# Altium footprint library RPSLib_LEDs.PcbLib: 12 footprints
Each footprint in its own frame and in the unit in brackets; x right, y up, seen from the top. Pads: shape width x height; smd on the part's side, far side on the other; paste and mask are expansions set on the pad; w line width, h text height; cw(c..) or ccw(c..) is an arc to the next point about the centre after c.
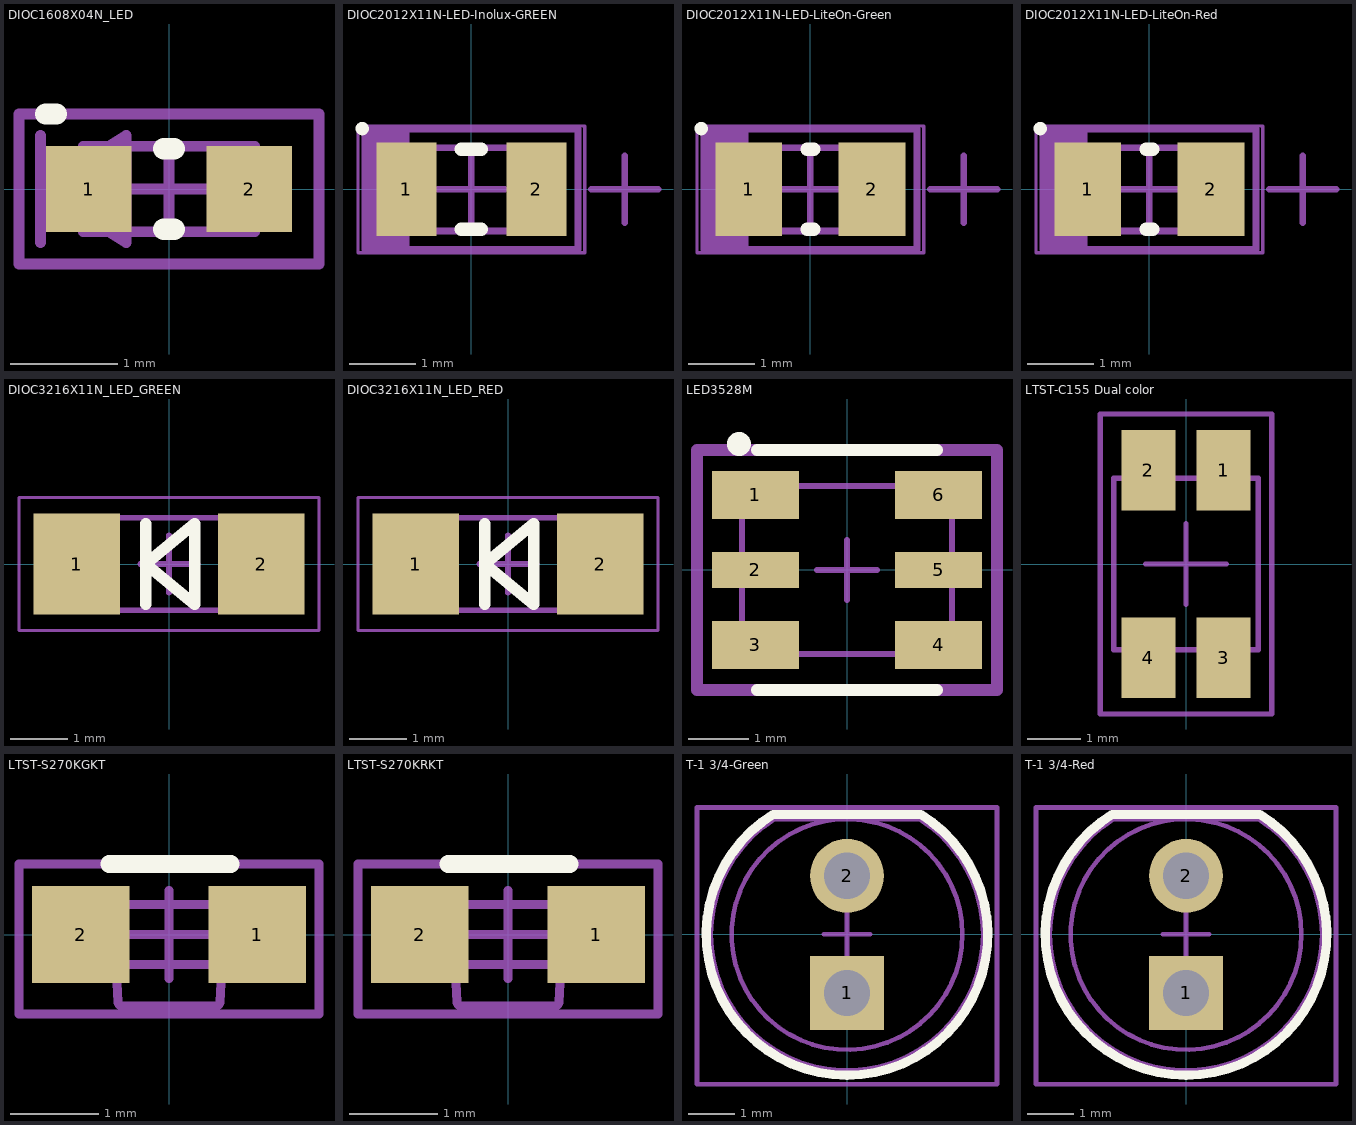
[diagram p0: the footprints below, top view; thin cyan lines are the x and y axes]

## DIOC1608X04N_LED [mm] "Chip LED, 2-Leads, Body 1,60x0,80mm, IPC Medium Density"
height 0.35
pads (2):
  rect 0.8x0.8 smd: 1(-0.75,0) 2(0.75,0)
Top Overlay:
  lines w0.2: -1.15,0.7 -1.05,0.7 ; -0.05,-0.375 0.05,-0.375 ; -0.05,0.375 0.05,0.375
Mechanical 1:
  lines w0.1: -1.2,-0.5 -1.2,0.5 ; -1.4,-0.7 -1.4,0.7 1.4,0.7 1.4,-0.7 -1.4,-0.7 ; -1.2,0 -0.4,0.5 -0.4,-0.5 -1.2,0
  text ".Designator" at -1.126,-0.113 h0.5
Mechanical 13:
  lines w0.1: -0.8,-0.4 0.8,-0.4 0.8,0.4 -0.8,0.4 -0.8,-0.4
Mechanical 15:
  lines w0.05: -1.4,-0.7 1.4,-0.7 1.4,0.7 -1.4,0.7 -1.4,-0.7
  lines w0.1: -0.4,0 0.4,0 ; 0,-0.4 0,0.4
3D body "LTST-C193KGKT-5A.stp": height 0.35, standoff 0, extent -0.81,-0.4 0.81,0.4

## DIOC2012X11N-LED-Inolux-GREEN [mm] "Chip Diode, 2-Leads, Body 2,00x1,25mm, IPC Medium Density"
height 1.1
pads (2):
  rect 0.9x1.4 smd: 1(-0.975,0) 2(0.975,0)
Top Overlay:
  circle w0.1: c-1.637,0.912 r0.05
  lines w0.2: -0.15,-0.6 0.15,-0.6 ; -0.15,0.6 0.15,0.6
Mechanical 1:
  rectangle: -1.6,-0.9 -0.925,0.897
  lines w0.1: 1.8,0 2.8,0 ; 2.3,-0.5 2.3,0.5 ; -1.6,-0.9 -1.6,0.9 1.6,0.9 1.6,-0.9 -1.6,-0.9
  text ".Designator" at -1.126,-0.113 h0.5
Mechanical 13:
  lines w0.1: -1,-0.625 1,-0.625 1,0.625 -1,0.625 -1,-0.625
Mechanical 15:
  lines w0.05: -1.7,-0.95 1.7,-0.95 1.7,0.95 -1.7,0.95 -1.7,-0.95
  lines w0.1: -0.5,0 0.5,0 ; 0,-0.5 0,0.5
3D body "everlight-17-21-0805LED-GREEN.step": height 1.1, standoff -0.01, extent -1,-0.625 1,0.625

## DIOC2012X11N-LED-LiteOn-Green [mm] "Chip Diode, 2-Leads, Body 2,00x1,25mm, IPC Medium Density"
height 1.1
pads (2):
  rect 1x1.4 smd: 1(-0.925,0) 2(0.925,0)
Top Overlay:
  circle w0.1: c-1.637,0.912 r0.05
  lines w0.2: -0.05,-0.6 0.05,-0.6 ; -0.05,0.6 0.05,0.6
Mechanical 1:
  rectangle: -1.6,-0.9 -0.925,0.897
  lines w0.1: 1.8,0 2.8,0 ; 2.3,-0.5 2.3,0.5 ; -1.6,-0.9 1.6,-0.9 1.6,0.9 -1.6,0.9 -1.6,-0.9
  text ".Designator" at -1.126,-0.113 h0.5
Mechanical 13:
  lines w0.1: -1,-0.625 1,-0.625 1,0.625 -1,0.625 -1,-0.625
Mechanical 15:
  lines w0.05: -1.7,-0.95 1.7,-0.95 1.7,0.95 -1.7,0.95 -1.7,-0.95
  lines w0.1: -0.5,0 0.5,0 ; 0,-0.5 0,0.5
3D body "everlight-17-21-0805LED-GREEN.step": height 1.1, standoff -0.01, extent -1,-0.625 1,0.625

## DIOC2012X11N-LED-LiteOn-Red [mm] "Chip Diode, 2-Leads, Body 2,00x1,25mm, IPC Medium Density"
height 1.1
pads (2):
  rect 1x1.4 smd: 1(-0.925,0) 2(0.925,0)
Top Overlay:
  circle w0.1: c-1.637,0.912 r0.05
  lines w0.2: -0.05,-0.6 0.05,-0.6 ; -0.05,0.6 0.05,0.6
Mechanical 1:
  rectangle: -1.6,-0.9 -0.925,0.897
  lines w0.1: 1.8,0 2.8,0 ; 2.3,-0.5 2.3,0.5 ; -1.6,-0.9 -1.6,0.9 1.6,0.9 1.6,-0.9 -1.6,-0.9
  text ".Designator" at -1.126,-0.113 h0.5
Mechanical 13:
  lines w0.1: -1,-0.625 1,-0.625 1,0.625 -1,0.625 -1,-0.625
Mechanical 15:
  lines w0.05: -1.7,-0.95 1.7,-0.95 1.7,0.95 -1.7,0.95 -1.7,-0.95
  lines w0.1: -0.5,0 0.5,0 ; 0,-0.5 0,0.5
3D body "everlight-17-21-0805LED-red.step": height 1.1, standoff -0.01, extent -1,-0.625 1,0.625

## DIOC3216X11N_LED_GREEN [mm] "Chip Diode, 2-Leads, Body 3,20x1,60mm, IPC Medium Density"
height 1.1
pads (2):
  rect 1.5x1.75 smd: 1(-1.6,0) 2(1.6,0)
Top Overlay:
  lines w0.2: -0.4,-0.7 -0.4,0.7 ; -0.4,0 0.45,-0.7 0.45,0.7 -0.4,0
Mechanical 13:
  lines w0.1: -1.6,-0.8 1.6,-0.8 1.6,0.8 -1.6,0.8 -1.6,-0.8
Mechanical 15:
  lines w0.05: -2.6,-1.15 -2.6,1.15 2.6,1.15 2.6,-1.15 -2.6,-1.15
  lines w0.1: -0.5,0 0.5,0 ; 0,-0.5 0,0.5
3D body "User Library-LED 1206 GREEN.step": height 1.1, standoff 0, extent -1.6,-0.8 1.6,0.8

## DIOC3216X11N_LED_RED [mm] "Chip Diode, 2-Leads, Body 3,20x1,60mm, IPC Medium Density"
height 1.1
pads (2):
  rect 1.5x1.75 smd: 1(-1.6,0) 2(1.6,0)
Top Overlay:
  lines w0.2: -0.4,-0.7 -0.4,0.7 ; -0.4,0 0.45,0.7 0.45,-0.7 -0.4,0
Mechanical 13:
  lines w0.1: -1.6,-0.8 -1.6,0.8 1.6,0.8 1.6,-0.8 -1.6,-0.8
Mechanical 15:
  lines w0.05: -2.6,-1.15 2.6,-1.15 2.6,1.15 -2.6,1.15 -2.6,-1.15
  lines w0.1: -0.5,0 0.5,0 ; 0,-0.5 0,0.5
3D body "User Library-LED 1206 RED.step": height 1.1, standoff 0, extent -1.6,-0.8 1.6,0.8

## LED3528M [mm] "SMD LED 3.5x2.8 mm, 0.6mm height"
height 0.6
pads (6):
  rect 1.45x0.8 smd mask+0.07: 1(-1.525,1.25) 3(-1.525,-1.25) 4(1.525,-1.25) 6(1.525,1.25)
  rect 1.45x0.6 smd mask+0.07: 2(-1.525,0) 5(1.525,0)
Top Overlay:
  circle w0.2: c-1.8,2.1 r0.1
  lines w0.2: -1.5,-2 1.5,-2 ; -1.5,2 1.5,2
Mechanical 13:
  lines w0.1: -1.75,-1.4 1.75,-1.4 1.75,1.4 -1.75,1.4 -1.75,-1.4
Mechanical 15:
  lines w0.1: -0.5,0 0.5,0 ; 0,-0.5 0,0.5
  lines w0.2: -2.5,-2 2.5,-2 2.5,2 -2.5,2 -2.5,-2
3D body "LED3528M.stp": height 0.6, standoff -0.01, extent -1.75,-1.4 1.75,1.4

## LTST-C155 Dual color [mm] "Dual color LED"
height 1.1
pads (4):
  rect 1x1.5 smd mask+0.07: 1(0.7,1.75) 2(-0.7,1.75) 3(0.7,-1.75) 4(-0.7,-1.75)
Mechanical 13:
  lines w0.1: -1.35,-1.6 1.35,-1.6 1.35,1.6 -1.35,1.6 -1.35,-1.6
Mechanical 15:
  lines w0.1: -0.75,0 0.75,0 ; 0,-0.75 0,0.75 ; -1.6,-2.8 -1.6,2.8 1.6,2.8 1.6,-2.8 -1.6,-2.8

## LTST-S270KGKT [mm] "LED Green Right Angle"
height 0.6
pads (2):
  rect 1.1x1.1 smd: 1(1,0) 2(-1,0)
Top Overlay:
  lines w0.2: -0.678,0.8 0.7,0.8
Mechanical 13:
  lines w0.1: -0.6,0.34 -0.6,-0.34 ; -0.528,-0.811 0,-0.811 0.528,-0.811 ; -0.528,-0.81 cw(c-0.528,-0.76) -0.578,-0.763 -0.6,-0.34 ; 0.528,-0.81 ccw(c0.528,-0.76) 0.578,-0.763 0.6,-0.34 ; 0.6,0.34 0.6,-0.34 ; -0.6,-0.34 0.6,-0.34 ; -0.6,-0.34 -0.77,-0.34 -0.825,-0.34 -0.825,0.34 -0.77,0.34 -0.495,0.34 0,0.34 0.495,0.34 0.77,0.34 0.825,0.34 0.825,-0.34 0.77,-0.34 0.6,-0.34
Mechanical 15:
  lines w0.1: -0.5,0 0.5,0 ; 0,-0.5 0,0.5 ; -1.7,-0.9 1.7,-0.9 1.7,0.8 -1.7,0.8 -1.7,-0.9
3D body "LTST-S270KGKT.stp": height 0.6, standoff 0, extent -0.825,-0.811 0.825,0.34

## LTST-S270KRKT [mm] "LED Red Right Angle"
height 0.6
pads (2):
  rect 1.1x1.1 smd: 1(1,0) 2(-1,0)
Top Overlay:
  lines w0.2: -0.678,0.8 0.7,0.8
Mechanical 13:
  lines w0.1: -0.6,0.34 -0.6,-0.34 ; -0.528,-0.811 0,-0.811 0.528,-0.811 ; -0.528,-0.81 cw(c-0.528,-0.76) -0.578,-0.763 -0.6,-0.34 ; 0.528,-0.81 ccw(c0.528,-0.76) 0.578,-0.763 0.6,-0.34 ; 0.6,0.34 0.6,-0.34 ; -0.6,-0.34 0.6,-0.34 ; -0.6,-0.34 -0.77,-0.34 -0.825,-0.34 -0.825,0.34 -0.77,0.34 -0.495,0.34 0,0.34 0.495,0.34 0.77,0.34 0.825,0.34 0.825,-0.34 0.77,-0.34 0.6,-0.34
Mechanical 15:
  lines w0.1: -0.5,0 0.5,0 ; 0,-0.5 0,0.5 ; -1.7,-0.9 1.7,-0.9 1.7,0.8 -1.7,0.8 -1.7,-0.9
3D body "LTST-S270KRKT.stp": height 0.6, standoff 0, extent -0.825,-0.811 0.825,0.34

## T-1 3/4-Green [mm] "Throw hole LED, dia 5mm"
height 14
pads (2):
  rect 1.6x1.6 hole 1 mask+0.07: 1(0,-1.27)
  round 1.6 hole 1 mask+0.07: 2(0,1.27)
Top Overlay:
  lines w0.2: -1.595,2.6 ccw(c0,0) 1.595,2.6 -1.595,2.6
Mechanical 13:
  circle w0.1: c0,0 r2.5
  lines w0.1: -1.566,2.5 ccw(c0,0) 1.566,2.5 0,2.5 -1.566,2.5
Mechanical 15:
  lines w0.1: -0.5,0 0.5,0 ; 0,-0.5 0,0.5 ; -3.25,-3.25 -3.25,2.75 3.25,2.75 3.25,-3.25 -3.25,-3.25
3D body "L-53SGC Green.stp": height 13.6, standoff -3, extent -2.95,-2.95 2.95,2.5

## T-1 3/4-Red [mm] "Throw hole LED, dia 5mm"
height 14
pads (2):
  rect 1.6x1.6 hole 1 mask+0.07: 1(0,-1.27)
  round 1.6 hole 1 mask+0.07: 2(0,1.27)
Top Overlay:
  lines w0.2: -1.595,2.6 ccw(c0,0) 1.595,2.6 -1.595,2.6
Mechanical 13:
  circle w0.1: c0,0 r2.5
  lines w0.1: -1.566,2.5 ccw(c0,0) 1.566,2.5 0,2.5 -1.566,2.5
Mechanical 15:
  lines w0.1: -0.5,0 0.5,0 ; 0,-0.5 0,0.5 ; -3.25,-3.25 -3.25,2.75 3.25,2.75 3.25,-3.25 -3.25,-3.25
3D body "L-53SRD-C Red.stp": height 13.6, standoff -3, extent -2.95,-2.95 2.95,2.5